# EAGLE library part CEM9288 (library Generic MOSFET)
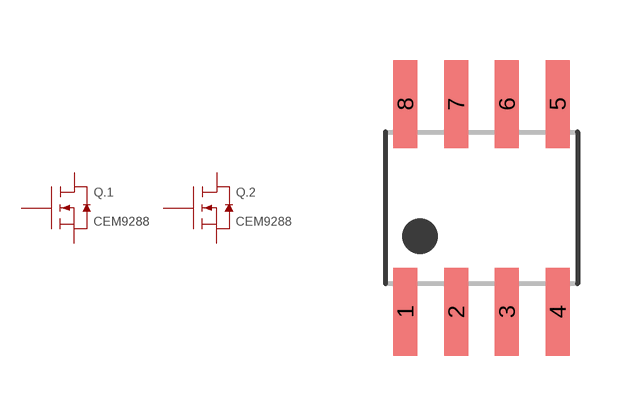
[diagram p0: symbol with the pads of SOIC8; footprint SOIC8]

Designator prefix Q; gates .1=NMOS .2=NMOS

## CEM9288  [SOIC8]
1  .1:S  pas
2  .1:G  pas
3  .2:S  pas
4  .2:G  pas
5  .2:D  pas
6  .2:D  pas
7  .1:D  pas
8  .1:D  pas

## Footprint SOIC8 (pad centres in mm)
smd 0.6 x 2.2: 1 -1.905,-2.6; 2 -0.635,-2.6; 3 0.635,-2.6; 4 1.905,-2.6; 5 1.905,2.6; 6 0.635,2.6; 7 -0.635,2.6; 8 -1.905,2.6